# Altium integrated library IC_SMD_Regulator_LDO_TLV73333PDBVR.IntLib: 1 symbol
Pins are listed as number, name and electrical type; pins without a type are passive.

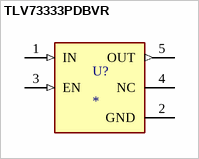
[diagram p0: symbol TLV73333PDBVR]

## TLV73333PDBVR
designator U?
300-mA, capacitor-free, low-IQ, low-dropout voltage regulator with enable; MF: Texas Instruments; MP: TLV73333PDBVR; SnapEDA_Link: https://www.snapeda.com/parts/TLV73333PDBVR/Texas+Instruments/view-part/?ref=snap; Package: SOT-23-5 Texas Instruments; Value: *; Check_prices: https://www.snapeda.com/parts/TLV73333PDBVR/Texas+Instruments/view-part/?ref=eda
footprint SOT95P280X145-5N
pins: 1 IN (in), 2 GND (power), 3 EN (in), 4 NC, 5 OUT (out)